# EAGLE library part SOCKET4_156 (library wheat)
4-PIN SOCKET, .156 CENTERS
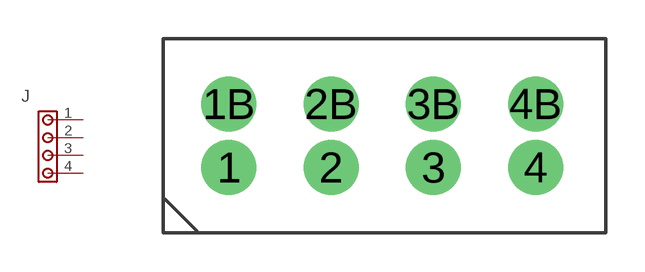
[diagram p74: symbol with the pads of SOCKET_4P_156; footprint SOCKET_4P_156]

Designator prefix J

## SOCKET4_156  [SOCKET_4P_156]
1  1  pas
1B  1A  pas
2  2  pas
2B  2A  pas
3  3  pas
3B  3A  pas
4  4  pas
4B  4A  pas

## Footprint SOCKET_4P_156 (pad centres in mm)
SOCKET, .156 CENTERS, 4 PINS
drill 1.422: 1 0,-1.232; 1B 0,1.232; 2 3.962,-1.232; 2B 3.962,1.232; 3 7.925,-1.232; 3B 7.925,1.232; 4 11.887,-1.232; 4B 11.887,1.232